# EAGLE library part L9110 (library STEMFIE_Electrics)
Check availability <https://pricing.snapeda.com/parts/L9110%20%28SOP-8%29/Asic/view-part?ref=eda>
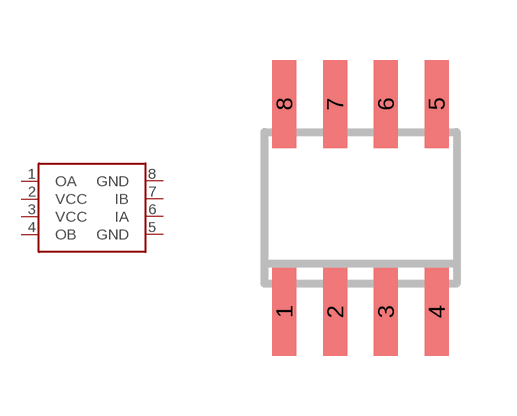
[diagram p1: symbol with the pads of SO-08; footprint SO-08]

Designator prefix -

## L9110SO8 (AVAILABILITY: Not in stock; DESCRIPTION: Motor control driver chip; MF: Asic; MP: L9110 (SOP-8); PACKAGE: Package; PRICE: None)  [SO-08]
1  OA  out
2  VCC  pwr
3  VCC  pwr
4  OB  out
5  GND  pwr
6  IA  in
7  IB  in
8  GND  pwr

## Footprint SO-08 (pad centres in mm)
D (R-PDSO-G8) Plastic Small Outline Package Source: http://focus.ti.com/lit/ds/symlink/sn65als176.pdf
smd 0.6 x 2.2: 1 -1.905,-2.6; 2 -0.635,-2.6; 3 0.635,-2.6; 4 1.905,-2.6; 5 1.905,2.6; 6 0.635,2.6; 7 -0.635,2.6; 8 -1.905,2.6